# Altium footprint library myPcbLib.PcbLib: 124 footprints (part 5 of 8)
Each footprint in its own frame and in the unit in brackets; x right, y up, seen from the top. Pads: shape width x height; smd on the part's side, far side on the other; paste and mask are expansions set on the pad; w line width, h text height; cw(c..) or ccw(c..) is an arc to the next point about the centre after c.
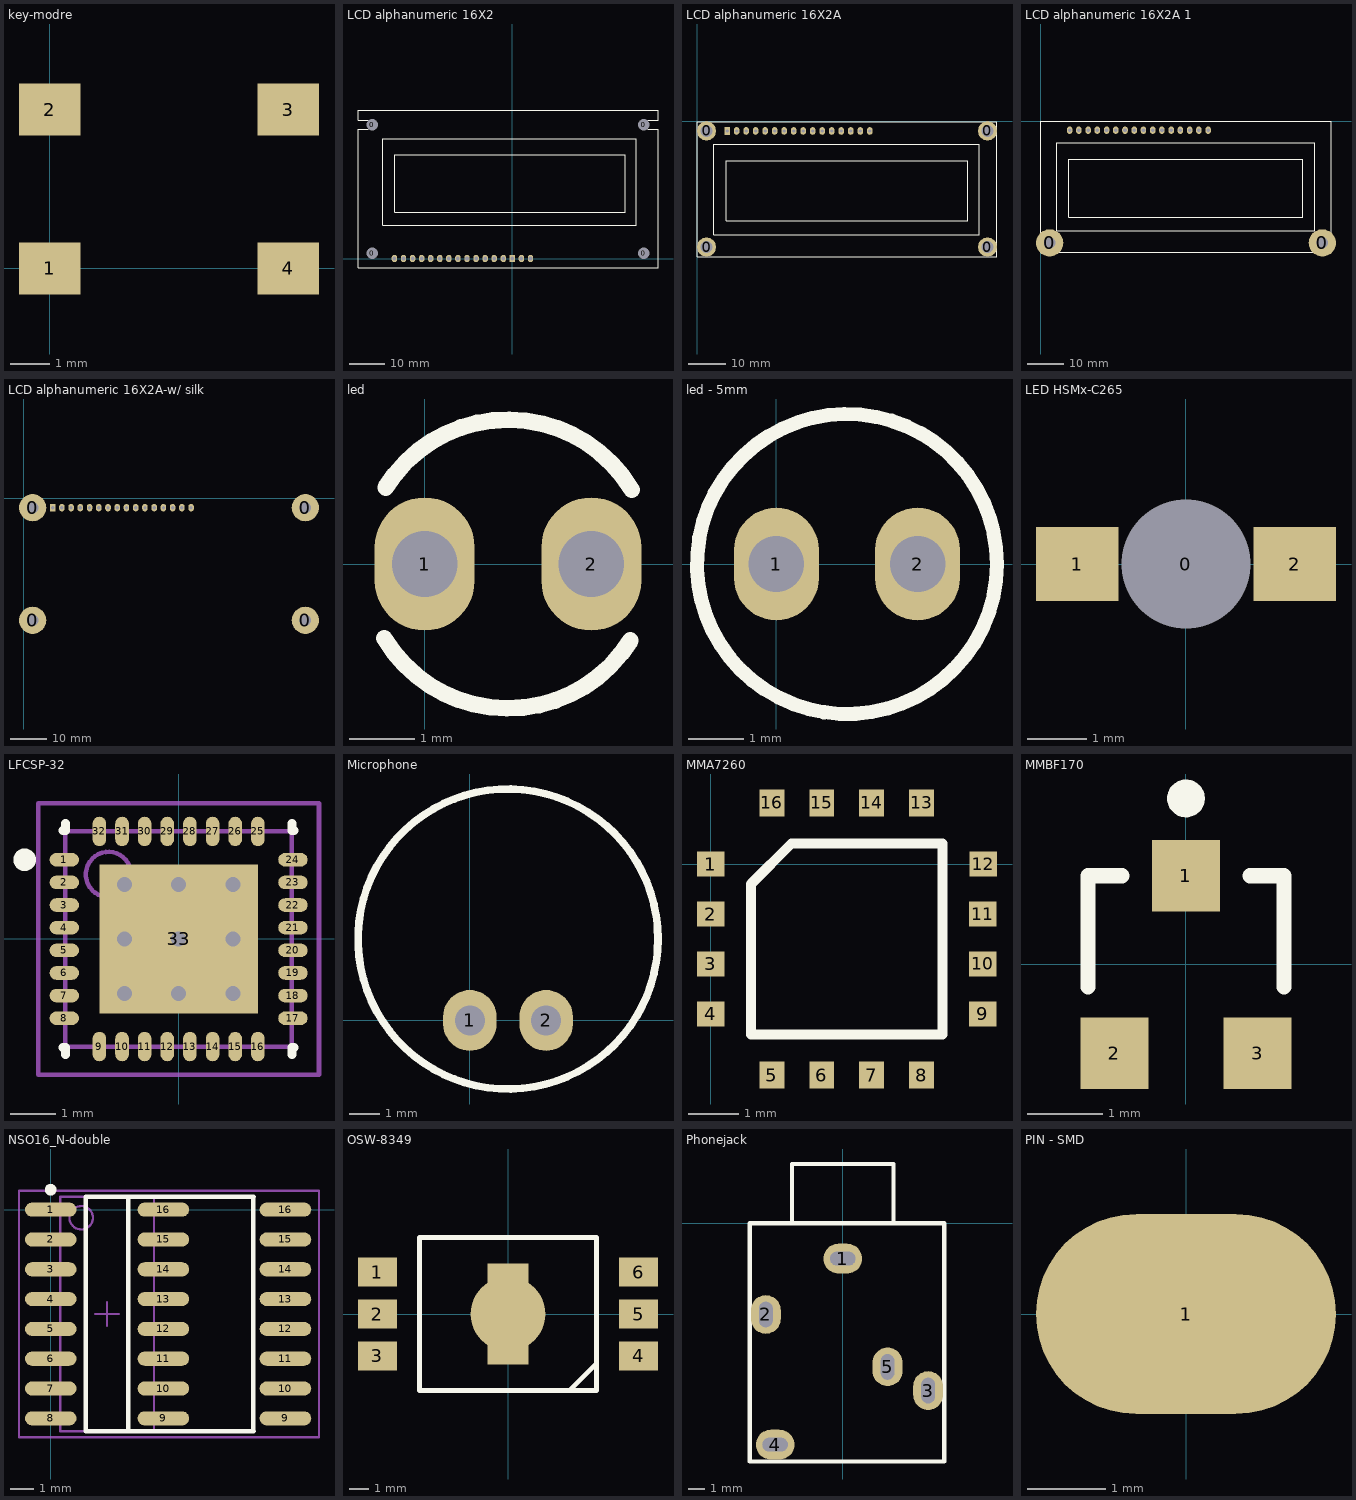
[diagram p4: the footprints below, top view; thin cyan lines are the x and y axes]

## key-modre [mm]
pads (4):
  rect 1.55x1.3 smd: 1(0,0) 2(0,4) 3(6,4) 4(6,0)

## LCD alphanumeric 16X2 [mil]
pads (20):
  round 100 hole 125.98: 0(-1544.09,57.48) 0(-1544.09,1474.8) 0(1448.03,57.48) 0(1448.03,1474.8)
  rect 60x80 hole 39.37: 1(0,0)
  oval 60x80 hole 39.37: 2(-100,0) 3(-200,0) 4(-300,0) 5(-400,0) 6(-500,0) 7(-600,0) 8(-700,0) 9(-800,0) 10(-900,0) 11(-1000,0) 12(-1100,0) 13(-1200,0) 14(-1300,0) 15(100,0) 16(200,0)
Top Overlay:
  lines w10: -1590,1425.59 -1701.57,1425.59 -1701.57,-100 1605.51,-100 1605.51,1425.59 1495,1425.59 ; -1590,1524.02 -1701.57,1524.02 -1701.57,1632.28 1605.51,1632.28 1605.51,1524.02 1495,1524.02 ; -1426.89,364.76 1368.39,364.76 1368.39,1317.52 -1426.89,1317.52 -1426.89,364.76 ; -1296.46,511.89 1242.91,511.89 1242.91,1141.81 -1296.46,1141.81 -1296.46,511.89

## LCD alphanumeric 16X2A [mil]
pads (20):
  round 200 hole 125.98: 0(98.46,-1320.47) 0(98.46,-100) 0(3052.76,-1320.47) 0(3052.76,-100)
  rect 60x80 hole 35.43: 1(315,-100)
  oval 60x80 hole 35.43: 2(415,-100) 3(515,-100) 4(615,-100) 5(715,-100) 6(815,-100) 7(915,-100) 8(1015,-100) 9(1115,-100) 10(1215,-100) 11(1315,-100) 12(1415,-100) 13(1515,-100) 14(1615,-100) 15(1715,-100) 16(1815,-100)
Top Overlay:
  lines w10: 0,-1420 0,-5 3150,-5 3150,-1420 0,-1420 ; 173.11,-1190.24 173.11,-237.48 2968.39,-237.48 2968.39,-1190.24 173.11,-1190.24 ; 303.54,-1043.11 303.54,-413.19 2842.91,-413.19 2842.91,-1043.11 303.54,-1043.11

## LCD alphanumeric 16X2A 1 [mil]
pads (18):
  round 295.28 hole 125.98: 0(98.46,-1315.47) 0(3052.76,-1315.47)
  oval 60x80 hole 39.37: 1(315,-95) 2(415,-95) 3(515,-95) 4(615,-95) 5(715,-95) 6(815,-95) 7(915,-95) 8(1015,-95) 9(1115,-95) 10(1215,-95) 11(1315,-95) 12(1415,-95) 13(1515,-95) 14(1615,-95) 15(1715,-95) 16(1815,-95)
Top Overlay:
  lines w10: 0,-1415 0,0 3150,0 3150,-1415 0,-1415 ; 173.11,-1185.24 173.11,-232.48 2968.39,-232.48 2968.39,-1185.24 173.11,-1185.24 ; 303.54,-1038.11 303.54,-408.19 2842.91,-408.19 2842.91,-1038.11 303.54,-1038.11

## LCD alphanumeric 16X2A-w/ silk [mil]
pads (20):
  round 295.28 hole 125.98: 0(98.46,-1320.47) 0(98.46,-100) 0(3052.76,-1320.47) 0(3052.76,-100)
  rect 60x80 hole 35.43: 1(315,-100)
  oval 60x80 hole 35.43: 2(415,-100) 3(515,-100) 4(615,-100) 5(715,-100) 6(815,-100) 7(915,-100) 8(1015,-100) 9(1115,-100) 10(1215,-100) 11(1315,-100) 12(1415,-100) 13(1515,-100) 14(1615,-100) 15(1715,-100) 16(1815,-100)

## led [mil]
pads (2):
  oval 60x80 hole 39.37: 1(0,0) 2(100,0)
Top Overlay:
  lines w10: -24.27,-44.56 ccw(c50,0) 123.45,-45.9 ; -23.45,45.9 cw(c50,0) 124.27,44.56

## led - 5mm [mil]
pads (2):
  oval 60x80 hole 39.37: 1(0,0) 2(100,0)
Top Overlay:
  lines w10: 140.14,-56.34 cw(c50,0) 141.62,-53.9

## LED HSMx-C265 [mm] "LED HSMx-C265"
pads (3):
  round 1.524 hole 2.2: 0(0,0)
  rect 1.4x1.25 smd: 1(-1.85,0) 2(1.85,0)

## LFCSP-32 [mm] "QFN, 32-Leads, Body 4,8x5,0mm (max), Pitch 0,50mm, IPC Medium Density"
height 0.85
pads (33):
  oval 0.65x0.3 smd: 1(-2.525,1.75) 2(-2.525,1.25) 3(-2.525,0.75) 4(-2.525,0.25) 5(-2.525,-0.25) 6(-2.525,-0.75) 7(-2.525,-1.25) 8(-2.525,-1.75) 17(2.525,-1.75) 18(2.525,-1.25) 19(2.525,-0.75) 20(2.525,-0.25) 21(2.525,0.25) 22(2.525,0.75) 23(2.525,1.25) 24(2.525,1.75)
  oval 0.3x0.65 smd: 9(-1.75,-2.375) 10(-1.25,-2.375) 11(-0.75,-2.375) 12(-0.25,-2.375) 13(0.25,-2.375) 14(0.75,-2.375) 15(1.25,-2.375) 16(1.75,-2.375) 25(1.75,2.375) 26(1.25,2.375) 27(0.75,2.375) 28(0.25,2.375) 29(-0.25,2.375) 30(-0.75,2.375) 31(-1.25,2.375) 32(-1.75,2.375)
  rect 3.5x3.3 smd: 33(0,0)
via 1.2,-1.2 diameter 0.66 hole 0.33
via 0,-1.2 diameter 0.66 hole 0.33
via -1.2,-1.2 diameter 0.66 hole 0.33
via 1.2,0 diameter 0.66 hole 0.33
via 0,0 diameter 0.66 hole 0.33
via -1.2,0 diameter 0.66 hole 0.33
via 1.2,1.2 diameter 0.66 hole 0.33
via 0,1.2 diameter 0.66 hole 0.33
via -1.2,1.2 diameter 0.66 hole 0.33
Top Overlay:
  circle w0.25: c-3.4,1.75 r0.125
  lines w0.2: -2.55,-2.4 -2.5,-2.4 -2.5,-2.55 ; -2.55,2.4 -2.5,2.4 -2.5,2.55 ; 2.5,-2.55 2.5,-2.4 2.55,-2.4 ; 2.5,2.55 2.5,2.4 2.55,2.4
Mechanical 13:
  circle w0.1: c-1.55,1.425 r0.5
  lines w0.1: -2.5,-2.375 2.5,-2.375 2.5,2.375 -2.5,2.375 -2.5,-2.375
Mechanical 15:
  lines w0.1: -0.5,0 0.5,0 ; 0,-0.5 0,0.5 ; -3.1,-3 3.1,-3 3.1,3 -3.1,3 -3.1,-3
3D body: height 0.85, standoff 0.01, extent -2.5,-2.375 2.5,2.375

## Microphone [mil]
pads (2):
  oval 70x80 hole 39.37: 1(0,0) 2(100,0)
Top Overlay:
  circle w10: c50,106.85 r196.85

## MMA7260 [mm]
pads (16):
  rect 0.55x0.5 smd: 1(0,0) 2(0,-1) 3(0,-2) 4(0,-3) 9(5.45,-3) 10(5.45,-2) 11(5.45,-1) 12(5.461,0)
  rect 0.5x0.55 smd: 5(1.225,-4.225) 6(2.225,-4.225) 7(3.225,-4.225) 8(4.225,-4.225) 13(4.225,1.225) 14(3.225,1.225) 15(2.225,1.225) 16(1.225,1.225)
Top Overlay:
  lines w0.2: 0.81,-3.415 4.64,-3.415 4.64,0.415 1.62,0.415 0.81,-0.395 0.81,-3.415

## MMBF170 [mm] "MMBF170"
height 1.1
pads (3):
  rect 0.9x0.95 smd: 1(0,1.175) 2(-0.95,-1.175) 3(0.95,-1.175)
Top Overlay:
  circle w0.25: c0,2.2 r0.125
  lines w0.2: -1.3,-0.3 -1.3,1.175 -0.85,1.175 ; 0.85,1.175 1.3,1.175 1.3,-0.3

## NSO16_N-double [mm] "SOIC, 16-Leads, Body 9.9x3.9mm, Pitch 1.27mm, IPC Medium Density"
height 1.75
pads (24):
  oval 2.2x0.6 smd: 1(0,0) 2(0,-1.27) 3(0,-2.54) 4(0,-3.81) 5(0,-5.08) 6(0,-6.35) 7(0,-7.62) 8(0,-8.89) 9(4.8,-8.89) 9(10,-8.89) 10(4.8,-7.62) 10(10,-7.62) 11(4.8,-6.35) 11(10,-6.35) 12(4.8,-5.08) 12(10,-5.08) 13(4.8,-3.81) 13(10,-3.81) 14(4.8,-2.54) 14(10,-2.54) 15(4.8,-1.27) 15(10,-1.27) 16(4.8,0) 16(10,0)
Top Overlay:
  circle w0.25: c0,0.85 r0.125
  lines w0.2: 3.024,-9.445 8.636,-9.445 ; 3.278,0.555 8.636,0.555 ; 8.634,-9.445 8.634,0.555 ; 1.5,-9.445 3.3,-9.445 3.3,0.555 1.5,0.555 1.5,-9.445
Mechanical 13:
  circle w0.1: c1.3,-0.345 r0.5
  lines w0.1: 0.4,-9.445 4.4,-9.445 4.4,0.555 0.4,0.555 0.4,-9.445
Mechanical 15:
  lines w0.1: 1.9,-4.445 2.9,-4.445 ; 2.4,-4.945 2.4,-3.945 ; -1.35,-9.695 11.43,-9.695 11.43,0.805 -1.35,0.805 -1.35,-9.695
3D body: height 1.75, standoff 0, extent 0.4,-9.445 4.4,0.555

## OSW-8349 [mm] "Led OSW-8349 3W"
pads (8):
  rect 2x1.5 smd: 1(-6.731,2.159) 2(-6.731,0) 3(-6.731,-2.159) 4(6.731,-2.159) 5(6.731,0) 6(6.731,2.159)
  round 3.85 smd: ""(0,0)
  rect 2.1x5.2 smd: ""(0,0)
Top Overlay:
  lines w0.254: 3.175,-3.937 4.572,-2.54 ; -4.572,-3.937 4.572,-3.937 4.572,3.937 0,3.937 -4.572,3.937 -4.572,-3.937

## Phonejack [mm]
pads (5):
  oval 2.286x1.778 hole 0.8 slot 1.5 at 0 deg: 1(0,-2.1) 4(-4,-13.1)
  oval 1.778x2.286 hole 0.8 slot 1.5 at 90 deg: 2(-4.55,-5.4) 3(5.05,-9.9) 5(2.65,-8.5)
Top Overlay:
  lines w0.254: -3,0 -3,3.5 3,3.5 3,0 ; -5.5,-14.1 6,-14.1 6,0 -5.5,0 -5.5,-14.1

## PIN - SMD [mm]
pads (1):
  oval 3.81x2.54 smd: 1(0,0)